# EAGLE library part LMZ14201 (library texas)
POWER MODULE BUCK SYNC ADJ 1A
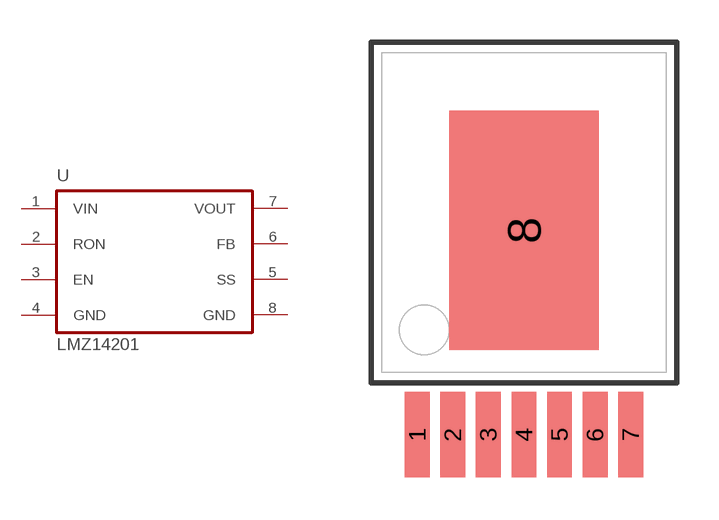
[diagram p119: symbol with the pads of TO-PMOD-7; footprint TO-PMOD-7]

Designator prefix U

## LMZ14201  [TO-PMOD-7]
1  VIN  in
2  RON  in
3  EN  in
4  GND  in
5  SS  in
6  FB  in
7  VOUT  pas
8  GND  in

## Footprint TO-PMOD-7 (pad centres in mm)
TO-PMOD-7
smd 0.89 x 3.06: 1 -3.81,-7.305; 2 -2.54,-7.305; 3 -1.27,-7.305; 4 0,-7.305; 5 1.27,-7.305; 6 2.54,-7.305; 7 3.81,-7.305
smd 5.35 x 8.54: 8 0,0